# Altium footprint library ATSAMDA1E15B-ABT.PcbLib: 1 footprints
Each footprint in its own frame and in the unit in brackets; x right, y up, seen from the top. Pads: shape width x height; smd on the part's side, far side on the other; paste and mask are expansions set on the pad; w line width, h text height; cw(c..) or ccw(c..) is an arc to the next point about the centre after c.
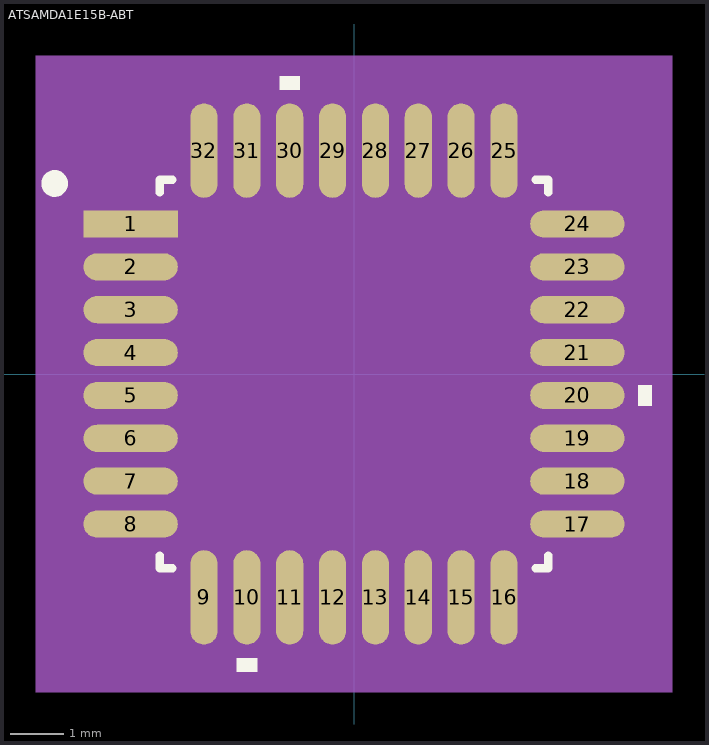
[diagram p0: the footprint, top view; thin cyan lines are the x and y axes]

## ATSAMDA1E15B-ABT [mm]
pads (32):
  rect 1.762x0.507 smd paste+0 mask+0: 1(-4.169,2.8)
  oval 1.762x0.507 smd paste+0 mask+0: 2(-4.169,2) 3(-4.169,1.2) 4(-4.169,0.4) 5(-4.169,-0.4) 6(-4.169,-1.2) 7(-4.169,-2) 8(-4.169,-2.8) 17(4.169,-2.8) 18(4.169,-2) 19(4.169,-1.2) 20(4.169,-0.4) 21(4.169,0.4) 22(4.169,1.2) 23(4.169,2) 24(4.169,2.8)
  oval 0.507x1.762 smd paste+0 mask+0: 9(-2.8,-4.169) 10(-2,-4.169) 11(-1.2,-4.169) 12(-0.4,-4.169) 13(0.4,-4.169) 14(1.2,-4.169) 15(2,-4.169) 16(2.8,-4.169) 25(2.8,4.169) 26(2,4.169) 27(1.2,4.169) 28(0.4,4.169) 29(-0.4,4.169) 30(-1.2,4.169) 31(-2,4.169) 32(-2.8,4.169)
Top Overlay:
  circle w0.25: c-5.588,3.556 r0.125
  region: -1.01,5.304 -1.391,5.304 -1.391,5.558 -1.01,5.558
  region: 5.304,-0.209 5.558,-0.209 5.558,-0.59 5.304,-0.59
  region: -1.81,-5.304 -2.191,-5.304 -2.191,-5.558 -1.81,-5.558
  lines w0.152: -3.627,-3.386 -3.627,-3.627 -3.386,-3.627 ; -3.627,3.386 -3.627,3.627 -3.386,3.627 ; 3.386,-3.627 3.627,-3.627 3.627,-3.386 ; 3.386,3.627 3.627,3.627 3.627,3.386
Mechanical 5:
  region: 5.939,-5.939 -5.939,-5.939 -5.939,5.939 5.939,5.939
Mechanical 13:
  lines w0.025: -3.5,2.23 -2.23,3.5 ; -4.5,-3.029 -3.5,-3.029 -3.5,-2.571 -4.5,-2.571 -4.5,-3.029 ; -4.5,-2.229 -3.5,-2.229 -3.5,-1.771 -4.5,-1.771 -4.5,-2.229 ; -4.5,-1.429 -3.5,-1.429 -3.5,-0.971 -4.5,-0.971 -4.5,-1.429 ; -4.5,-0.629 -3.5,-0.629 -3.5,-0.171 -4.5,-0.171 -4.5,-0.629 ; -4.5,0.171 -3.5,0.171 -3.5,0.629 -4.5,0.629 -4.5,0.171 ; -4.5,0.971 -3.5,0.971 -3.5,1.429 -4.5,1.429 -4.5,0.971 ; -4.5,1.771 -3.5,1.771 -3.5,2.229 -4.5,2.229 -4.5,1.771 ; -4.5,2.571 -3.5,2.571 -3.5,3.029 -4.5,3.029 -4.5,2.571 ; -3.5,-3.5 3.5,-3.5 3.5,3.5 -3.5,3.5 -3.5,-3.5 ; -3.029,-4.5 -2.571,-4.5 -2.571,-3.5 -3.029,-3.5 -3.029,-4.5 ; -3.029,3.5 -3.029,4.5 -2.571,4.5 -2.571,3.5 -3.029,3.5 ; -2.229,-4.5 -1.771,-4.5 -1.771,-3.5 -2.229,-3.5 -2.229,-4.5 ; -2.229,3.5 -2.229,4.5 -1.771,4.5 -1.771,3.5 -2.229,3.5 ; -1.429,-4.5 -0.971,-4.5 -0.971,-3.5 -1.429,-3.5 -1.429,-4.5 ; -1.429,3.5 -1.429,4.5 -0.971,4.5 -0.971,3.5 -1.429,3.5 ; -0.629,-4.5 -0.171,-4.5 -0.171,-3.5 -0.629,-3.5 -0.629,-4.5 ; -0.629,3.5 -0.629,4.5 -0.171,4.5 -0.171,3.5 -0.629,3.5 ; 0.171,-4.5 0.629,-4.5 0.629,-3.5 0.171,-3.5 0.171,-4.5 ; 0.171,3.5 0.171,4.5 0.629,4.5 0.629,3.5 0.171,3.5 ; 0.971,-4.5 1.429,-4.5 1.429,-3.5 0.971,-3.5 0.971,-4.5 ; 0.971,3.5 0.971,4.5 1.429,4.5 1.429,3.5 0.971,3.5 ; 1.771,-4.5 2.229,-4.5 2.229,-3.5 1.771,-3.5 1.771,-4.5 ; 1.771,3.5 1.771,4.5 2.229,4.5 2.229,3.5 1.771,3.5 ; 2.571,-4.5 3.029,-4.5 3.029,-3.5 2.571,-3.5 2.571,-4.5 ; 2.571,3.5 2.571,4.5 3.029,4.5 3.029,3.5 2.571,3.5 ; 3.5,-3.029 4.5,-3.029 4.5,-2.571 3.5,-2.571 3.5,-3.029 ; 3.5,-2.229 4.5,-2.229 4.5,-1.771 3.5,-1.771 3.5,-2.229 ; 3.5,-1.429 4.5,-1.429 4.5,-0.971 3.5,-0.971 3.5,-1.429 ; 3.5,-0.629 4.5,-0.629 4.5,-0.171 3.5,-0.171 3.5,-0.629 ; 3.5,0.171 4.5,0.171 4.5,0.629 3.5,0.629 3.5,0.171 ; 3.5,0.971 4.5,0.971 4.5,1.429 3.5,1.429 3.5,0.971 ; 3.5,1.771 4.5,1.771 4.5,2.229 3.5,2.229 3.5,1.771 ; 3.5,2.571 4.5,2.571 4.5,3.029 3.5,3.029 3.5,2.571
  text "*" at -3.436,2.565 h1.27
Mechanical 15:
  region: -3.562,-4.008 -4.008,-4.008 -4.008,-3.562 -5.558,-3.562 -5.558,3.562 -4.008,3.562 -4.008,4.008 -3.562,4.008 -3.562,5.558 3.562,5.558 3.562,4.008 4.008,4.008 4.008,3.562 5.558,3.562 5.558,-3.562 4.008,-3.562 4.008,-4.008 3.562,-4.008 3.562,-5.558 -3.562,-5.558
  lines w0.152: -5.558,-3.562 -5.558,3.562 -4.008,3.562 -4.008,4.008 -3.562,4.008 -3.562,5.558 3.562,5.558 3.562,4.008 4.008,4.008 4.008,3.562 5.558,3.562 5.558,-3.562 4.008,-3.562 4.008,-4.008 3.562,-4.008 3.562,-5.558 -3.562,-5.558 -3.562,-4.008 -4.008,-4.008 -4.008,-3.562 -5.558,-3.562
3D body "TQFP32_MC_MCH.step": height 1.2, standoff 0, extent -4.5,-4.5 4.5,4.5